# Altium footprint library CONDENSADOR_POLARIZADO.PcbLib: 1 footprints
Each footprint in its own frame and in the unit in brackets; x right, y up, seen from the top. Pads: shape width x height; smd on the part's side, far side on the other; paste and mask are expansions set on the pad; w line width, h text height; cw(c..) or ccw(c..) is an arc to the next point about the centre after c.
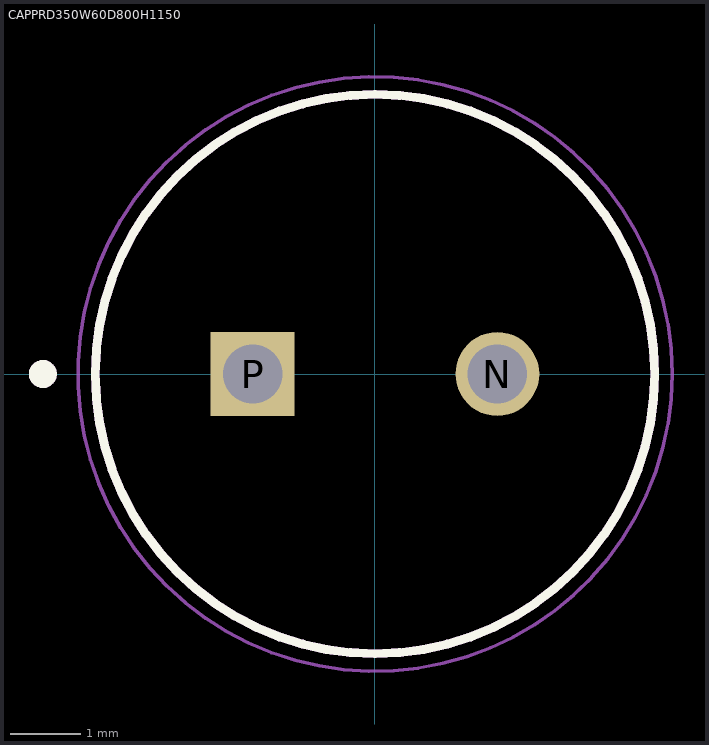
[diagram p0: the footprint, top view; thin cyan lines are the x and y axes]

## CAPPRD350W60D800H1150 [mm]
pads (2):
  round 1.2 hole 0.85: N(1.75,0)
  rect 1.2x1.2 hole 0.85: P(-1.75,0)
Top Overlay:
  circle w0.127: c0,0 r4
  circle w0.2: c-4.75,0 r0.1
Mechanical 13:
  circle w0.127: c0,0 r4
  circle w0.2: c-4.75,0 r0.1
Mechanical 15:
  circle w0.05: c0,0 r4.25
3D body "step_temp.STEP": height 11.5, standoff -17, extent -4,-4 4,4